# Altium schematic symbol library SBH11-PBPC-D07-ST-BK.SchLib: 2 symbols
Pins are listed as number, name and electrical type; pins without a type are passive.

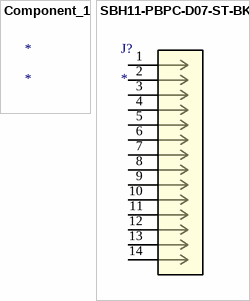
[diagram p0: symbols Component_1 to SBH11-PBPC-D07-ST-BK]

## Component_1
designator *

## SBH11-PBPC-D07-ST-BK
designator J?
No Description Available; Mfr_Name: Sullins; RefDes: RefDes; Type: Type
footprint CONN_SBH11-PBPC-D07-ST-BK_SUL
pins: 1, 2, 3, 4, 5, 6, 7, 8, 9, 10, 11, 12, 13, 14